# Altium schematic symbol library IC.SchLib: 36 symbols
Pins are listed as number, name and electrical type; pins without a type are passive.

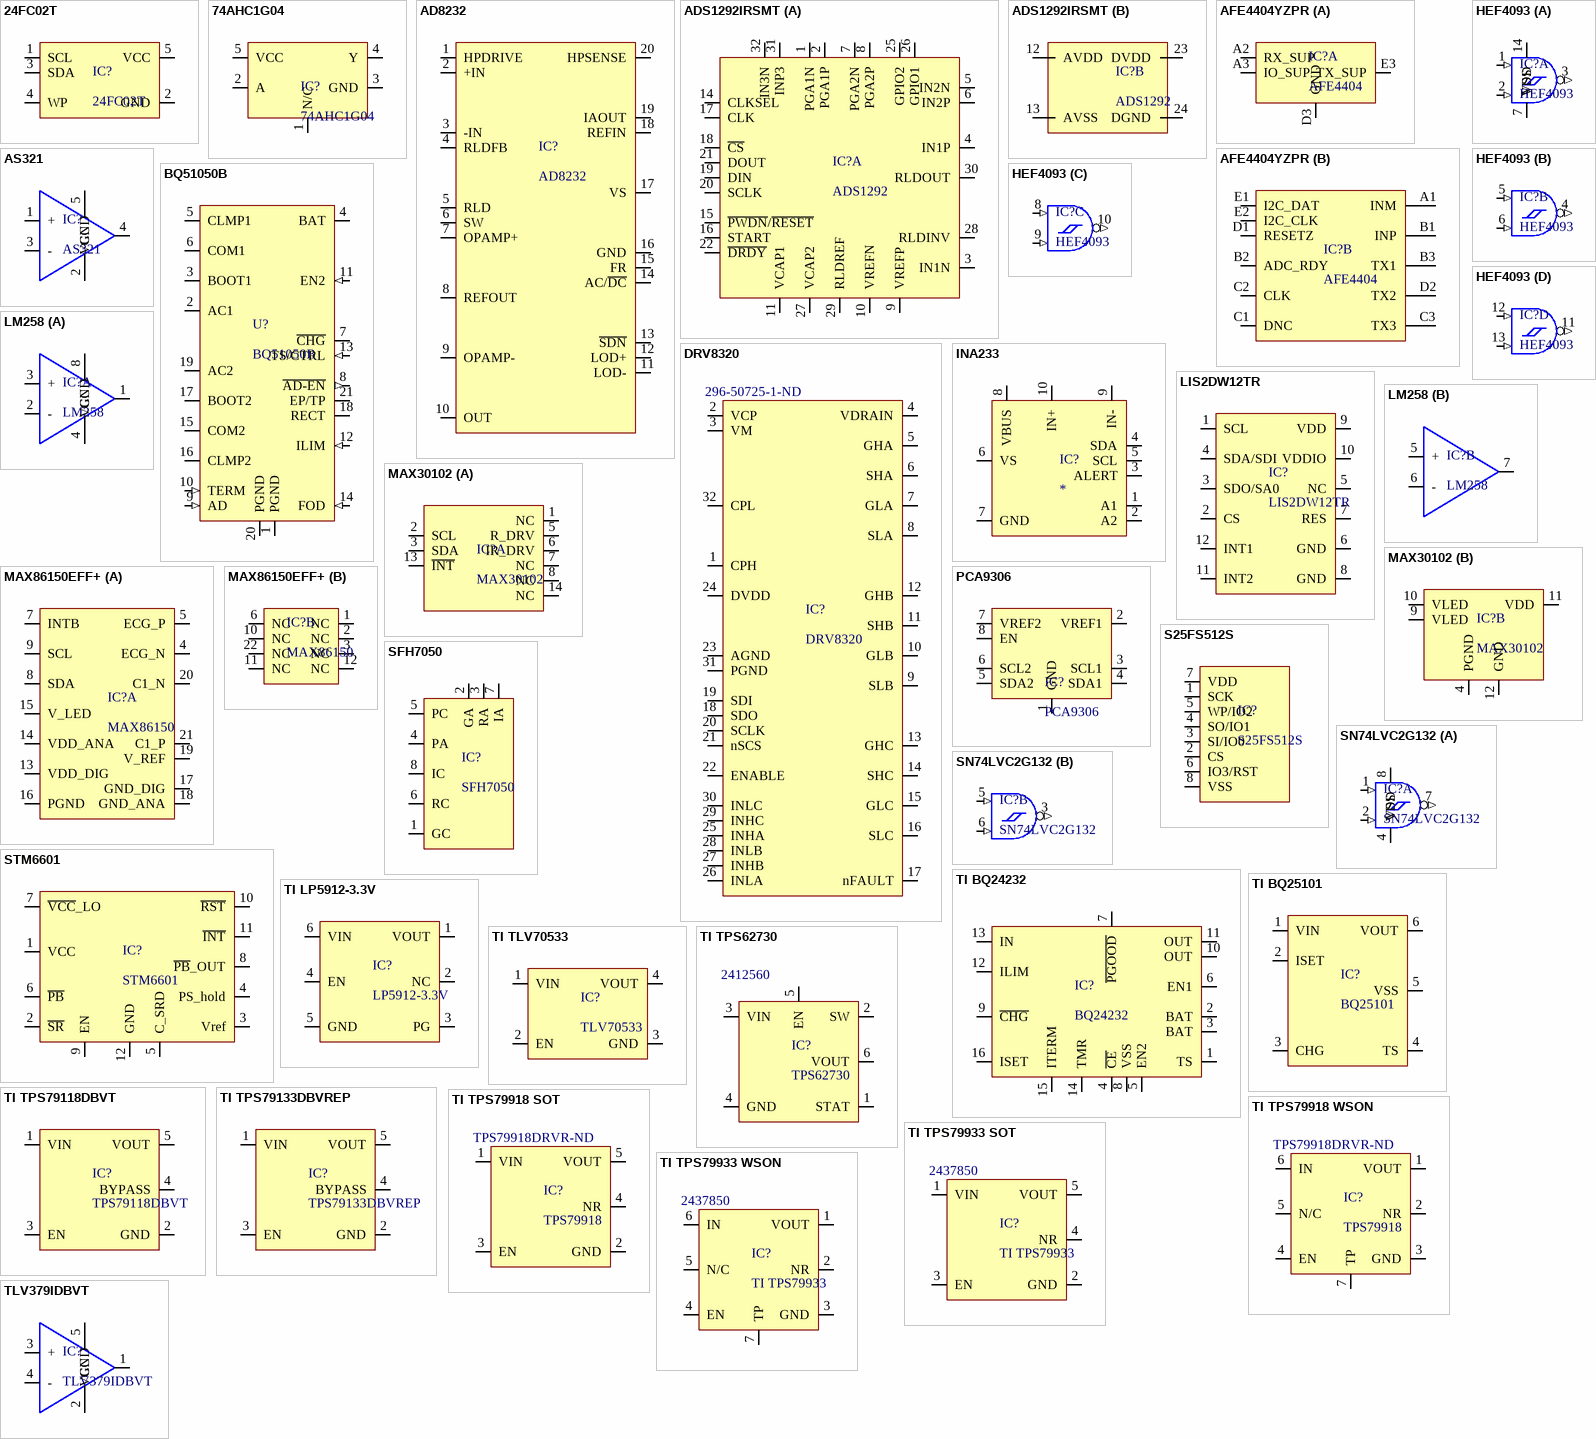
[diagram p0: symbols 24FC02T to TLV379IDBVT]

## 24FC02T
designator IC?
EEPROM 2Kb I2C EEPROM, 1MHz 1.7-5.5V, 5-SOT23; Manufacturer: Microchip; Manufacturer Part Number: 24FC02T-I/OT; Supplier 1: Digi-Key; Stock 1: 5975; Pricing 1: 1 = 0.12000, 100 = 0.11000 (USD); RoHS: No; Supplier Part Number 1: 24FC02T-I/OTCT-ND
footprint SOT23, 5-Leads (SOT23, 5-Leads, Body 2.88x2.80mm, Pitch 0.95mm, IPC Medium Density)
pins: 1 SCL, 2 GND, 3 SDA, 4 WP, 5 VCC

## 74AHC1G04
designator IC?
Inverter
footprint TSSOP5
pins: 1 N/C, 2 A, 3 GND, 4 Y, 5 VCC

## AD8232
designator IC?
Single-Lead, Heart Rate Monitor Front End
footprint LFCSP 20 (LFCSP_WQ 4x4MM JDEC)
pins: 1 HPDRIVE, 2 +IN, 3 -IN, 4 RLDFB, 5 RLD, 6 SW, 7 OPAMP+, 8 REFOUT, 9 OPAMP-, 10 OUT, 11 LOD-, 12 LOD+, 13 ~{SDN}, 14 AC/~{DC}, 15 FR, 16 GND, 17 VS, 18 REFIN, 19 IAOUT, 20 HPSENSE

## ADS1292IRSMT
designator IC?, comment ADS1292
ADS1292IRSMT Analog Front End - AFE Cmplt Lw Pwr Intgrtd AFE for ECG apps; Manufacture: Texas Instruments; SNR - Signal to Noise Ratio: 107 dB; Package/Cas: VQFN-32; Supply Voltage - Min - Max: 2.7V - 5.25V; Operating Supply Curren: 750 uA; Operating Supply Voltage: 1.7 V to 3.6 V, 2.7 V to 5.25 V; Product Category: Analog Front End - AFE; Series: ADS1292; DatasheetURL: http://www.ti.com/lit/ds/symlink/ads1292.pdf; StoreURL: http://pl.mouser.com/Search/ProductDetail.aspx?R=ADS1292IRSMTvirtualkey59500000virtualkey595-ADS1292IRSMT
footprint QFN 40 no via in pad (QFN, 32-Leads, Body 4,00x4,00mm, Pitch 0,40mm, Thermal Pad 2,80x2,80mm, IPC Medium Density)
footprint TQFP40 (TSQFP, 32-Leads, Body 5.00x5.00mm, Pitch 0.50mm, IPC Medium Density)
part A pins: 1 PGA1N, 2 PGA1P, 3 IN1N, 4 IN1P, 5 IN2N, 6 IN2P, 7 PGA2N, 8 PGA2P, 9 VREFP, 10 VREFN, 11 VCAP1, 14 CLKSEL, 15 ~{PWDN}/~{RESET}, 16 START, 17 CLK, 18 ~{CS}, 19 DIN, 20 SCLK, 21 DOUT, 22 ~{DRDY}, 25 GPIO2, 26 GPIO1, 27 VCAP2, 28 RLDINV, 29 RLDREF, 30 RLDOUT, 31 INP3, 32 IN3N
part B pins: 12 AVDD, 13 AVSS, 23 DVDD, 24 DGND

## AFE4404YZPR
designator IC?, comment AFE4404
AFE4404YZPR Analog Front End - AFE Ultra-small, Integr AFE for Wearable; Manufacturer: Texas Instruments; SNR - Signal to Noise Ratio: 100 dB; Supply Voltage - Min - Max: 1.8 - 5.25 V; Product Category: Analog Front End - AFE; Series: AFE4404; Type: Heart Rate and Oximeter AFE; Package/Case: DSBGA-15; ShopURL: http://pl.mouser.com/Search/ProductDetail.aspx?R=AFE4404YZPRvirtualkey59510000virtualkey595-AFE4404YZPR; DatasheetURL: http://www.ti.com/lit/ds/symlink/afe4404.pdf; Model: AFE4404YZPR
footprint BGA15 (BGA, 15-Leads, Body 1,60x2,60mmx0,50mm, Pitch 0,50mm)
part A pins: A2 RX_SUP, A3 IO_SUP, D3 GND, E3 TX_SUP
part B pins: A1 INM, B1 INP, B2 ADC_RDY, B3 TX1, C1 DNC, C2 CLK, C3 TX3, D1 RESETZ, D2 TX2, E1 I2C_DAT, E2 I2C_CLK

## AS321
designator IC?
Op amp
footprint SOT23, 5-Leads (SOT23, 5-Leads, Body 2.88x2.80mm, Pitch 0.95mm, IPC Medium Density)
pins: 1 +, 2 GND, 3 -, 4 OUT, 5 VCC

## BQ51050B
designator U?
IC WIRELESS PWR RCVR 20QFN; Manufacturer: Texas Instruments; Manufacturer Part Number: BQ51050BRHLR; Output Voltage: 4.2V; Output Current: 1.5A; Operating Supply Current: 8mA; Min Supply Voltage: 4V; Max Supply Voltage: 10V; Logic Function: Receiver; Supplier 1: Mouser; Stock 1: 23281; Pricing 1: 1=3.73, 10=3.35, 50=3.35, 100=2.74, 1000=1.97, 10000=1.87 (USD); Mount: Surface Mount; Case/Package: VQFN; Number of Pins: 20; Contact Plating: Gold; Min Operating Temperature: 0°C; Max Operating Temperature: 125°C; Packaging: Tape and Reel; Package Quantity: 1; REACH SVHC: No SVHC; Lead Free: Lead Free; ComponentLink1URL: http://www.ti.com/lit/ds/symlink/bq51050b.pdf; ComponentLink1Description: http://www.ti.com/lit/ds/symlink/bq51050b.pdf; Supplier Part Number 1: 595-BQ51050BRHLR
footprint BQ51050B
pins: 1 PGND (power) "Power ground", 2 AC1 (power) "Input power from receiver coil.", 3 BOOT1 "Bootstrap capacitors for driving the high-side FETs of the synchronous rectifier. Connect a 10nF ceramic capacitor from BOOT1 to AC1 and from BOOT2 to AC2.", 4 BAT (power) "Output pin, delivers power to the battery while applying the internal charger profile.", 5 CLMP1 (oc) "Open drain FETs which are utilized for a non-power dissipative over-voltage AC clamp protection. When the RECT voltage goes above 15 V, both switches will be turned on and the capacitors will act as a low impedance to (See Datasheet)", 6 COM1 (oc) "Open-drain output used to communicate with primary by varying reflected impedance. Connect through a capacitor to either AC1 or AC2 for capacitive load modulation (COMM2 must be connected to the alternate AC1 or AC2 pin). (See Datasheet)", 7 ~{CHG} (oc) "Open-drain output - active when charging of the battery is active.", 8 ~{AD-EN} (out) "Push-pull driver for external PFET when wired charging is active.", 9 AD (in) "Connect this pin to the wired adapter input. When a voltage is applied to this pin wireless charging is disabled and AD_EN is driven low. Connect to GND through a 1uF capacitor. If unused, capacitor is not required and (See Datasheet)", 10 TERM (in) "Input that allows the termination threshold to be programmable. KTERM = 240 ohm/%. Set the termination threshold by applying the following equation RTERM = %IILIM x KTERM where %IILIM is the desired percentage of fast charge (See Datasheet)", 11 EN2 (in) "EN2=0 enables wired charging source if AD input volatge is above 3.6V, wireless charging is enabled if AD input volatge is < 3.6V, EN2=1 disables wired charging source; wireless power is always enabled if present.", 12 ILIM (in) "Programming pin for the battery charge current. Connect external resistor to VSS. Size RILIM with the following equation: RILIM = 300 / IILIM where IILIM is the desired battery charge current.", 13 TS/CTRL (in) "Must be connected to ground via a NTC resistor. If an NTC function is not desired, connect to GND with a 10 kohm resistor. As a CTRL pin pull to ground to send end power transfer (EPT) fault to the transmitter or pull-up to (See Datasheet)", 14 FOD (in) "Input for the rectified power measurement. Connect to GND with a 188 ohm resistor.", 15 COM2 (oc) "Open-drain output used to communicate with primary by varying reflected impedance. Connect through a capacitor to either AC1 or AC2 for capacitive load modulation (COMM1 must be connected to the alternate AC1 or AC2 pin). (See Datasheet)", 16 CLMP2 (oc) "Open drain FETs which are utilized for a non-power dissipative over-voltage AC clamp protection. When the RECT voltage goes above 15 V, both switches will be turned on and the capacitors will act as a low impedance to (See Datasheet)", 17 BOOT2 "Bootstrap capacitors for driving the high-side FETs of the synchronous rectifier. Connect a 10nF ceramic capacitor from BOOT1 to AC1 and from BOOT2 to AC2.", 18 RECT "Filter capacitor for the internal synchronous rectifier. Connect a ceramic capacitor to PGND. Depending on the power levels, the value may be 4.7uF to 22uF.", 19 AC2 (power) "Input power from receiver coil.", 20 PGND (power) "Power ground", 21 EP/TP

## DRV8320
designator IC?  Supplier Part Number 1: 296-50725-1-ND
DRV832x 6 to 60-V Three-Phase Smart Gate Driver; Manufacturer: Texas Instruments; Manufacturer Part Number: DRV8320SRTVR; Supplier 1: Digi-Key; Stock 1: 4114; Pricing 1: 1 = 3.46000, 10 = 3.10600, 25 = 2.93640, 100 = 2.41430, 250 = 2.16632, 500 = 2.08800, 1000 = 1.73565 (USD); RoHS: No; Min Operating Temperature: -40°C; Max Operating Temperature: 125°C; ComponentLink1URL: http://www.ti.com/general/docs/suppproductinfo.tsp?distId=10&amp;gotoUrl=http%3A%2F%2Fwww.ti.com%2Flit%2Fgpn%2Fdrv8320&src-supplier=Digi-Key; ComponentLink1Description: http://www.ti.com/general/docs/suppproductinfo.tsp?distId=10&amp;gotoUrl=http%3A%2F%2Fwww.ti.com%2Flit%2Fgpn%2Fdrv8320&src-supplier=Digi-Key; ComponentLink2URL: http://www.ti.com/lit/ds/symlink/drv8320.pdf?src-supplier=Digi-Key; ComponentLink2Description: http://www.ti.com/lit/ds/symlink/drv8320.pdf?src-supplier=Digi-Key
footprint WQFN32
pins: 1 CPH, 2 VCP, 3 VM, 4 VDRAIN, 5 GHA, 6 SHA, 7 GLA, 8 SLA, 9 SLB, 10 GLB, 11 SHB, 12 GHB, 13 GHC, 14 SHC, 15 GLC, 16 SLC, 17 nFAULT, 18 SDO, 19 SDI, 20 SCLK, 21 nSCS, 22 ENABLE, 23 AGND, 24 DVDD, 25 INHA, 26 INLA, 27 INHB, 28 INLB, 29 INHC, 30 INLC, 31 PGND, 32 CPL

## HEF4093
designator IC?
Quad, dual input NAND gate
part A pins: 1 A (in), 2 B (in), 3 Y (out), 7 VSS (power), 14 VDD (power)
part B pins: 4 Y (out), 5 A (in), 6 B (in)
part C pins: 8 A (in), 9 B (in), 10 Y (out)
part D pins: 11 Y (out), 12 A (in), 13 B (in)

## INA233
designator IC?
INA233 High-Side or Low-Side Measurement, Bidirectional Current and Power Monitor / With I / 2C-, SMBus-, and PMBus-Compatible Interface
pins: 1 A1, 2 A2, 3 ALERT, 4 SDA, 5 SCL, 6 VS, 7 GND, 8 VBUS, 9 IN-, 10 IN+

## LIS2DW12TR
designator IC?
ACCEL 2-16G I2C/SPI 12LGA; Manufacturer: STMicroelectronics; Output Type: SPI,I2C; Axis: X, Y, Z; Bandwidth: 400Hz; Supplier 1: Mouser; Manufacturer Part Number: LIS2DW12TR; Stock 1: 50566; Pricing 1: 1=2.24, 10=1.9, 50=1.9, 100=1.52, 1000=1.11, 10000=0.95 (USD); Supplier 2: Mouser; Stock 2: 46784; Pricing 2: 1=2.24, 10=1.9, 50=1.9, 100=1.52, 1000=1.11, 10000=0.95 (USD); Mount: Surface Mount; Case/Package: LGA; Number of Pins: 12; Min Operating Temperature: -40°C; Max Operating Temperature: 85°C; Packaging: Cut Tape; Supplier Part Number 2: 511-LIS2DW12TR
footprint LGA50-12N (LGA, 12-Leads, Body 2.00x2.00mm, Pitch 0.50mm, IPC Medium Density)
pins: 1 SCL, 2 CS, 3 SDO/SA0, 4 SDA/SDI, 5 NC, 6 GND, 7 RES, 8 GND, 9 VDD, 10 VDDIO, 11 INT2, 12 INT1

## LM258
designator IC?
Op amp
footprint SOIC8 (SOIC, 8-Leads, Body 4.90x3.90mm, Pitch 1.27mm, IPC Medium Density)
part A pins: 1 OUT, 2 -, 3 +, 4 GND, 8 VCC
part B pins: 5 +, 6 -, 7 OUT

## MAX30102
designator IC?
Pulse Oximeter and Heart-Rate Sensor; Manufacturer: Maxim; Manufacturer Part Number: MAX30102EFD+T; Output Type: I2C; Supplier 1: Mouser; Stock 1: 0; Pricing 1: 1=8.6, 10=7.77, 50=7.18, 100=6.44, 1000=4.75, 10000=4.75 (USD); Min Operating Temperature: -40°C; Max Operating Temperature: 85°C; Supplier Part Number 1: 700-MAX30102EFD+T
footprint MAX30102
part A pins: 1 NC, 2 SCL, 3 SDA, 5 R_DRV, 6 IR_DRV, 7 NC, 8 NC, 13 ~{INT}, 14 NC
part B pins: 4 PGND, 9 VLED, 10 VLED, 11 VDD, 12 GND

## MAX86150EFF+
designator IC?, comment MAX86150
Integrated Photoplethysmogram and Electrocardiogram Bio-Sensor Module For Mobile Health; Manufacturer: Maxim; Manufacturer Part Number: MAX86150EFF+; Output Type: I2C; Supplier 1: Farnell; Stock 1: 340; ComponentLink1Description: Datasheet; ComponentLink1URL: https://datasheets.maximintegrated.com/en/ds/MAX86150.pdf; Supplier 2: Mouser; Stock 2: 341; Pricing 2: 1=7.14, 10=6.45, 50=5.79, 100=5.34, 1000=3.66, 10000=3.66 (USD); Min Operating Temperature: -40°C; Max Operating Temperature: 85°C; Supplier Part Number 2: 700-MAX86150EFF+
footprint MAX86150
part A pins: 4 ECG_N, 5 ECG_P, 7 INTB, 8 SDA, 9 SCL, 13 VDD_DIG, 14 VDD_ANA, 15 V_LED, 16 PGND, 17 GND_DIG, 18 GND_ANA, 19 V_REF, 20 C1_N, 21 C1_P
part B pins: 1 NC, 2 NC, 3 NC, 6 NC, 10 NC, 11 NC, 12 NC, 22 NC

## PCA9306
designator IC?
Dual Bidirectional I2C Bus and SMBus Voltage-Level Translator
footprint SSOP8
pins: 1 GND, 2 VREF1, 3 SCL1, 4 SDA1, 5 SDA2, 6 SCL2, 7 VREF2, 8 EN

## S25FS512S
designator IC?
IC FLASH 512M SPI 133MHZ 8WSON; Manufacturer: Cypress; Manufacturer Part Number: S25FS512SAGNFV010; Supplier 1: Digikey; Stock 1: 0; Pricing 1: 1=2.09, 10=1.908, 25=1.8572, 50=1.8474, 100=1.6513, 338=1.64639, 676=1.62189, 1014=1.55232, 5070=1.4455 (USD)
footprint WSON8 (SON, 8-Leads, Body 6,00x8,00mm, Pitch 1,27mm, Thermal Pad 4,00x3,40mm, IPC Medium Density)
pins: 1 SCK, 2 CS, 3 SI/IO0, 4 SO/IO1, 5 WP/IO2, 6 IO3/RST, 7 VDD, 8 VSS

## SFH7050
designator IC?
Multi chip package featuring 3 emitters and one detector
footprint SFH7050 package
pins: 1 GC, 2 GA, 3 RA, 4 PA, 5 PC, 6 RC, 7 IA, 8 IC

## SN74LVC2G132
designator IC?
Dual 2-Input NAND Gate With Schmitt-Trigger Inputs; Value: SN74LVC2G132
footprint TSSOP8 (TSSOP, 8-Leads, Body 2.00x2.30mm, Pitch 0.50mm, IPC Medium Density)
part A pins: 1 A (in), 2 B (in), 4 VSS (power), 7 Y (out), 8 VDD (power)
part B pins: 3 Y (out), 5 A (in), 6 B (in)

## STM6601
designator IC?
IC SUPERVISOR 3.1V 12TDFN; Manufacturer: STMicroelectronics; Manufacturer Part Number: STM6601CM2DDM6F; Max Supply Voltage: 5.5V; Min Supply Voltage: 1.65V; Number of Voltages Monitored: 1; Operating Supply Current: 6uA; Reset: Active Low; Overvoltage Threshold: 3.2V; Undervoltage Threshold: 3V; Watchdog Timer: No; Reset Timeout: 240ms; Supplier 1: Mouser; Stock 1: 15344; Pricing 1: 1=1.51, 10=1.29, 50=1.29, 100=0.985, 1000=0.687, 10000=0.587 (USD); Mount: Surface Mount; Case/Package: WFDFN; Number of Pins: 12; Min Operating Temperature: -40°C; Max Operating Temperature: 85°C; Packaging: Tape and Reel; Package Quantity: 3000; Threshold Voltage: 3.1V; Type: Smart On/Off controller; Length: 3mm; Height: 0.73mm; Radiation Hardening: No; Lead Free: Lead Free; ComponentLink1URL: http://www.mouser.com/ds/2/389/CD00226957-471027.pdf?src-supplier=Mouser; ComponentLink1Description: http://www.mouser.com/ds/2/389/CD00226957-471027.pdf?src-supplier=Mouser; ComponentLink2URL: http://www.st.com/content/ccc/resource/sales_and_marketing/promotional_material/flyer/aa/21/1f/20/e0/b1/46/88/FLSTM66XX0215.pdf/files/FLSTM66XX0215.pdf/jcr:content/translations/en.FLSTM66XX0215.pdf?src-supplier=Digi-Key; ComponentLink2Description: http://www.st.com/content/ccc/resource/sales_and_marketing/promotional_material/flyer/aa/21/1f/20/e0/b1/46/88/FLSTM66XX0215.pdf/files/FLSTM66XX0215.pdf/jcr:content/translations/en.FLSTM66XX0215.pdf?src-supplier=Digi-Key; ComponentLink3URL: https://www.verical.com/server-webapp/html/getDatasheet?partID=321468&src-supplier=Verical; ComponentLink3Description: https://www.verical.com/server-webapp/html/getDatasheet?partID=321468&src-supplier=Verical; ComponentLink4URL: http://www.st.com/web/en/resource/technical/document/datasheet/CD00226957.pdf?src-supplier=Avnet+Europe; ComponentLink4Description: http://www.st.com/web/en/resource/technical/document/datasheet/CD00226957.pdf?src-supplier=Avnet+Europe
footprint TDFN12
pins: 1 VCC, 2 ~{SR}, 3 Vref, 4 PS_hold, 5 C_SRD, 6 ~{PB}, 7 ~{VCC}_LO, 8 ~{PB}_OUT, 9 EN, 10 ~{RST}, 11 ~{INT}, 12 GND

## TI BQ24232
designator IC?, comment BQ24232
USB Friendly 0.5A Li+ Charger w/ Dynamic Power Management
footprint QFN16 (QFN, 16-Leads, Body 3.00x3.00mm, Pitch 0.50mm, Thermal Pad 1.68x1.68mm, IPC Medium Density)
pins: 1 TS, 2 BAT, 3 BAT, 4 ~{CE}, 5 EN2, 6 EN1, 7 ~{PGOOD}, 8 VSS, 9 ~{CHG}, 10 OUT, 11 OUT, 12 ILIM, 13 IN, 14 TMR, 15 ITERM, 16 ISET

## TI BQ25101
designator IC?, comment BQ25101
50 mA, 3 V TO 50 V, MICROPOWER, LOW-DROPOUT LINEAR REGULATOR
footprint BGA6 (BGA, 6-Leads, Body 0.88x1.58mmx0.50mm, Pitch 0.40mm)
pins: 1 VIN, 2 ISET, 3 CHG, 4 TS, 5 VSS, 6 VOUT

## TI LP5912-3.3V
designator IC?, comment LP5912-3.3V
50 mA, 3 V TO 50 V, MICROPOWER, LOW-DROPOUT LINEAR REGULATOR
footprint WSON 6 (SON, 6-Leads, Body 2.00x2.00mm, Pitch 0.65mm, Thermal Pad 1.60x0.89mm, IPC Medium Density)
pins: 1 VOUT, 2 NC, 3 PG, 4 EN, 5 GND, 6 VIN

## TI TLV70533
designator IC?, comment TLV70533
ULTRALOW NOISE, HIGH PSRR, FAST RF, 100-mA  LOW-DROPOUT LINEAR REGULATORS
footprint BGA4 (BGA, 4-Leads, Body 0.78x0.78mmx0.50mm, Pitch 0.40mm)
pins: 1 VIN, 2 EN, 3 GND, 4 VOUT

## TI TPS62730
designator IC?, comment TPS62730  Supplier Part Number 1: 2412560
Step-Down Converter With Bypass Mode for Ultra Low-Power Wireless; Manufacturer: Texas Instruments; Manufacturer Part Number: TPS62730DRYT; Output Voltage: 2.1V; Output Current: 100mA; Number of Outputs: 1; Switching Frequency: 3MHz; Efficiency: 95%; Max Input Voltage: 3.9V; Min Input Voltage: 1.9V; Quiescent Current: 25uA; Output Type: Fixed; Supplier 1: Farnell; Stock 1: 0; Number of Pins: 6; Min Operating Temperature: -40°C; Max Operating Temperature: 85°C; Package Quantity: 1; Packaging: Tape and Reel; Nominal Output Voltage: 2.1V; Max Output Current: 100mA; Max Output Voltage: 2.1V; Min Output Voltage: 2.1V; Length: 1.5mm; Height: 0.55mm; Width: 1.05mm; Radiation Hardening: No; REACH SVHC: No SVHC; Lead Free: Lead Free; ComponentLink1URL: http://www.ti.com/general/docs/lit/getliterature.tsp?genericPartNumber=TPS62732&&fileType=pdf&src-supplier=Avnet; ComponentLink1Description: http://www.ti.com/general/docs/lit/getliterature.tsp?genericPartNumber=TPS62732&&fileType=pdf&src-supplier=Avnet; ComponentLink2URL: http://www.farnell.com/datasheets/1882346.pdf?src-supplier=Element14; ComponentLink2Description: http://www.farnell.com/datasheets/1882346.pdf?src-supplier=Element14; ComponentLink3URL: http://www.ti.com/lit/ds/symlink/tps62730.pdf?src-supplier=Digi-Key; ComponentLink3Description: http://www.ti.com/lit/ds/symlink/tps62730.pdf?src-supplier=Digi-Key; ComponentLink4URL: http://www.ti.com/lit/ds/symlink/tps62730.pdf?src-supplier=Avnet+Europe; ComponentLink4Description: http://www.ti.com/lit/ds/symlink/tps62730.pdf?src-supplier=Avnet+Europe
footprint TPS62730
pins: 1 STAT, 2 SW, 3 VIN, 4 GND, 5 EN, 6 VOUT

## TI TPS79118DBVT
designator IC?, comment TPS79118DBVT
ULTRALOW NOISE, HIGH PSRR, FAST RF, 100-mA  LOW-DROPOUT LINEAR REGULATORS
footprint SOT23, 5-Leads (SOT23, 5-Leads, Body 2.88x2.80mm, Pitch 0.95mm, IPC Medium Density)
pins: 1 VIN, 2 GND, 3 EN, 4 BYPASS, 5 VOUT

## TI TPS79133DBVREP
designator IC?, comment TPS79133DBVREP
ULTRALOW NOISE, HIGH PSRR, FAST RF, 100-mA  LOW-DROPOUT LINEAR REGULATORS
footprint SOT23, 5-Leads (SOT23, 5-Leads, Body 2.88x2.80mm, Pitch 0.95mm, IPC Medium Density)
pins: 1 VIN, 2 GND, 3 EN, 4 BYPASS, 5 VOUT

## TI TPS79918 SOT
designator IC?, comment TPS79918  Supplier Part Number 1: TPS79918DRVR-ND
TPS799 200-mA, Low-Quiescent Current, Ultralow Noise, High-PSRR Low-Dropout Linear  Regulator; Manufacturer: Texas Instruments; Manufacturer Part Number: TPS79918DRVR; Number of Outputs: 1; Output Voltage: 1.8V; Output Current: 200mA; Max Power Dissipation: 1.54W; Max Input Voltage: 6.5V; Min Input Voltage: 2.7V; Polarity: Positive; Output Voltage Accuracy: 1%; Accuracy: 2%; Quiescent Current: 40uA; Output Type: Fixed; Dropout Voltage: 175mV; Supplier 1: Digi-Key; Stock 1: 0; Number of Pins: 6; Min Operating Temperature: -40°C; Max Operating Temperature: 125°C; Package Quantity: 3000; Packaging: Tape and Reel; Max Output Current: 200mA; Number of Regulators: 1; Min Current Limit: 200mA; Power Dissipation: 1.54W; Min Output Voltage: 1.8V; Max Output Voltage: 1.8V; Nominal Output Voltage: 1.8V; Input Bias Current: 40uA; Radiation Hardening: No; Lead Free: Lead Free; REACH SVHC: Unknown; ComponentLink1URL: http://www.ti.com/lit/ds/symlink/tps799.pdf?src-supplier=Digi-Key; ComponentLink1Description: http://www.ti.com/lit/ds/symlink/tps799.pdf?src-supplier=Digi-Key
footprint SOT23, 5-Leads (SOT23, 5-Leads, Body 2.88x2.80mm, Pitch 0.95mm, IPC Medium Density)
pins: 1 VIN, 2 GND, 3 EN, 4 NR, 5 VOUT

## TI TPS79918 WSON
designator IC?, comment TPS79918  Supplier Part Number 1: TPS79918DRVR-ND
TPS799 200-mA, Low-Quiescent Current, Ultralow Noise, High-PSRR Low-Dropout Linear  Regulator; Manufacturer: Texas Instruments; Manufacturer Part Number: TPS79918DRVR; Number of Outputs: 1; Output Voltage: 1.8V; Output Current: 200mA; Max Power Dissipation: 1.54W; Max Input Voltage: 6.5V; Min Input Voltage: 2.7V; Polarity: Positive; Output Voltage Accuracy: 1%; Accuracy: 2%; Quiescent Current: 40uA; Output Type: Fixed; Dropout Voltage: 175mV; Supplier 1: Digi-Key; Stock 1: 0; Number of Pins: 6; Min Operating Temperature: -40°C; Max Operating Temperature: 125°C; Package Quantity: 3000; Packaging: Tape and Reel; Max Output Current: 200mA; Number of Regulators: 1; Min Current Limit: 200mA; Power Dissipation: 1.54W; Min Output Voltage: 1.8V; Max Output Voltage: 1.8V; Nominal Output Voltage: 1.8V; Input Bias Current: 40uA; Radiation Hardening: No; Lead Free: Lead Free; REACH SVHC: Unknown; ComponentLink1URL: http://www.ti.com/lit/ds/symlink/tps799.pdf?src-supplier=Digi-Key; ComponentLink1Description: http://www.ti.com/lit/ds/symlink/tps799.pdf?src-supplier=Digi-Key
footprint WSON6 (SON, 6-Leads, Body 2.00x2.00mm, Pitch 0.65mm, Thermal Pad 1.60x0.89mm, IPC Medium Density)
pins: 1 VOUT, 2 NR, 3 GND, 4 EN, 5 N/C, 6 IN, 7 TP

## TI TPS79933 SOT
designator IC?, comment TI TPS79933  Supplier Part Number 1: 2437850
TPS799 200-mA, Low-Quiescent Current, Ultralow Noise, High-PSRR Low-Dropout Linear  Regulator; Manufacturer: Texas Instruments; Manufacturer Part Number: TPS79933DRVR; Dropout Voltage: 90mV; Output Current: 200mA; Number of Outputs: 1; Max Power Dissipation: 1.54W; Output Voltage: 3.3V; Max Input Voltage: 6.5V; Min Input Voltage: 2.7V; Polarity: Positive; Quiescent Current: 40uA; Accuracy: 2%; Output Voltage Accuracy: 1%; Output Type: Fixed; Reference Voltage: 1.217V; ComponentLink1URL: http://www.ti.com/lit/ds/symlink/tps799.pdf?src-supplier=Digi-Key; ComponentLink1Description: http://www.ti.com/lit/ds/symlink/tps799.pdf?src-supplier=Digi-Key; Supplier 1: Farnell; Stock 1: 0; Number of Pins: 6; Contact Plating: Gold; Min Operating Temperature: -40°C; Max Operating Temperature: 125°C; Package Quantity: 1; Packaging: Tape and Reel; Max Output Current: 200mA; Number of Regulators: 1; Min Current Limit: 200mA; Min Output Voltage: 3.3V; Power Dissipation: 1.54W; Max Output Voltage: 3.3V; Nominal Output Voltage: 3.3V; Input Bias Current: 40uA; Length: 2.1mm; Height: 0.75mm; Width: 2.1mm; Radiation Hardening: No; Lead Free: Lead Free; REACH SVHC: No SVHC; ComponentLink2URL: http://www.mouser.com/ds/2/405/sbvs056k-526638.pdf?src-supplier=Mouser; ComponentLink2Description: http://www.mouser.com/ds/2/405/sbvs056k-526638.pdf?src-supplier=Mouser; ComponentLink3URL: http://www.farnell.com/datasheets/1885786.pdf?src-supplier=Element14; ComponentLink3Description: http://www.farnell.com/datasheets/1885786.pdf?src-supplier=Element14; ComponentLink4URL: http://datasheet.iiic.cc/texas_instruments/TPS79933DRVR.pdf?src-supplier=IIIC; ComponentLink4Description: http://datasheet.iiic.cc/texas_instruments/TPS79933DRVR.pdf?src-supplier=IIIC
footprint SOT23, 5-Leads (SOT23, 5-Leads, Body 2.88x2.80mm, Pitch 0.95mm, IPC Medium Density)
pins: 1 VIN, 2 GND, 3 EN, 4 NR, 5 VOUT

## TI TPS79933 WSON
designator IC?, comment TI TPS79933  Supplier Part Number 1: 2437850
TPS799 200-mA, Low-Quiescent Current, Ultralow Noise, High-PSRR Low-Dropout Linear  Regulator; Manufacturer: Texas Instruments; Manufacturer Part Number: TPS79933DRVR; Dropout Voltage: 90mV; Output Current: 200mA; Number of Outputs: 1; Max Power Dissipation: 1.54W; Output Voltage: 3.3V; Max Input Voltage: 6.5V; Min Input Voltage: 2.7V; Polarity: Positive; Quiescent Current: 40uA; Accuracy: 2%; Output Voltage Accuracy: 1%; Output Type: Fixed; Reference Voltage: 1.217V; ComponentLink1URL: http://www.ti.com/lit/ds/symlink/tps799.pdf?src-supplier=Digi-Key; ComponentLink1Description: http://www.ti.com/lit/ds/symlink/tps799.pdf?src-supplier=Digi-Key; Supplier 1: Farnell; Stock 1: 0; Number of Pins: 6; Contact Plating: Gold; Min Operating Temperature: -40°C; Max Operating Temperature: 125°C; Package Quantity: 1; Packaging: Tape and Reel; Max Output Current: 200mA; Number of Regulators: 1; Min Current Limit: 200mA; Min Output Voltage: 3.3V; Power Dissipation: 1.54W; Max Output Voltage: 3.3V; Nominal Output Voltage: 3.3V; Input Bias Current: 40uA; Length: 2.1mm; Height: 0.75mm; Width: 2.1mm; Radiation Hardening: No; Lead Free: Lead Free; REACH SVHC: No SVHC; ComponentLink2URL: http://www.mouser.com/ds/2/405/sbvs056k-526638.pdf?src-supplier=Mouser; ComponentLink2Description: http://www.mouser.com/ds/2/405/sbvs056k-526638.pdf?src-supplier=Mouser; ComponentLink3URL: http://www.farnell.com/datasheets/1885786.pdf?src-supplier=Element14; ComponentLink3Description: http://www.farnell.com/datasheets/1885786.pdf?src-supplier=Element14; ComponentLink4URL: http://datasheet.iiic.cc/texas_instruments/TPS79933DRVR.pdf?src-supplier=IIIC; ComponentLink4Description: http://datasheet.iiic.cc/texas_instruments/TPS79933DRVR.pdf?src-supplier=IIIC
footprint WSON6 (SON, 6-Leads, Body 2.00x2.00mm, Pitch 0.65mm, Thermal Pad 1.60x0.89mm, IPC Medium Density)
pins: 1 VOUT, 2 NR, 3 GND, 4 EN, 5 N/C, 6 IN, 7 TP

## TLV379IDBVT
designator IC?
IC OP AMP RRIO SGL SOT23-5; Manufacturer: Texas Instruments; Number of Circuits: 1; Slew Rate: 0.03V/µs; Gain Bandwidth Product: 90kHz; Input Bias Current: 5pA; Input Offset Voltage (Vos): 800uV; Operating Supply Current: 4uA; Output Current per Channel: 5mA; Supplier 1: Farnell; Manufacturer Part Number: TLV379IDBVT; Stock 1: 0; Mount: Surface Mount; Case/Package: SOT-23-5; Number of Pins: 5; Min Operating Temperature: -40°C; Max Operating Temperature: 125°C; Packaging: Cut Tape; Number of Channels: 1; Bandwidth: 90kHz; Number of Amplifiers: 1; Lead Free: Lead Free; REACH SVHC: No SVHC
footprint SOT23, 5-Leads (SOT23, 5-Leads, Body 2.88x2.80mm, Pitch 0.95mm, IPC Medium Density)
pins: 1 OUT, 2 GND, 3 +, 4 -, 5 VCC

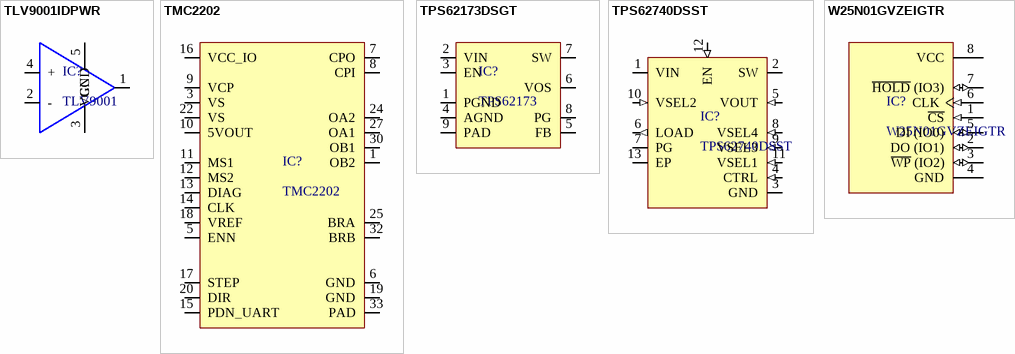
[diagram p1: symbols TLV9001IDPWR to W25N01GVZEIGTR]

## TLV9001IDPWR
designator IC?, comment TLV9001
Op amp; Manufacturer: Texas Instruments; Manufacturer Part Number: TLV9001IDPWR; Number of Circuits: 1; Slew Rate: 2V/µs; Gain Bandwidth Product: 1MHz; Input Bias Current: 5pA; Input Offset Voltage (Vos): 400uV; Operating Supply Current: 60uA; Output Current per Channel: 40mA; Supplier 1: Mouser; Stock 1: 3569; Pricing 1: 1=0.6, 10=0.5, 50=0.5, 100=0.302, 1000=0.233, 10000=0.185 (USD); Mount: Surface Mount; Min Operating Temperature: -40°C; Max Operating Temperature: 125°C; Packaging: Tape and Reel; Supplier Part Number 1: 595-TLV9001IDPWR
footprint X2SON - 5 (SON, 6-Leads, Body 2.00x2.00mm, Pitch 0.65mm, Thermal Pad 1.60x0.89mm, IPC Medium Density)
pins: 1 OUT, 2 -, 3 GND, 4 +, 5 VCC

## TMC2202
designator IC?
Step/Dir Drivers for Two-Phase Bipolar Stepper Motors up to 2A peak - / StealthChop™ for Quiet Movement - UART Interface Option.; Manufacturer: Trinamic; Manufacturer Part Number: TMC2202-WA-T; Logic Function: AND GATE; Interface: UART,Logic; Output Current: 1.2A; Supplier 1: Digi-Key; Stock 1: 479; Pricing 1: 1 = 2.46000, 50 = 2.21000, 100 = 1.95000, 500 = 1.69000, 1000 = 1.43001 (USD); RoHS: No; Mount: Surface Mount; Case/Package: QFN; Min Operating Temperature: -40°C; Max Operating Temperature: 125°C; Packaging: Cut Tape; ComponentLink1URL: https://www.trinamic.com/fileadmin/assets/Products/ICs_Documents/TMC220x_TMC222x_datasheet_Rev1.05.pdf?src-supplier=Digi-Key; ComponentLink1Description: https://www.trinamic.com/fileadmin/assets/Products/ICs_Documents/TMC220x_TMC222x_datasheet_Rev1.05.pdf?src-supplier=Digi-Key; Supplier Part Number 1: 1460-1272-1-ND
footprint QFN 40 no via in pad (QFN, 32-Leads, Body 4,00x4,00mm, Pitch 0,40mm, Thermal Pad 2,80x2,80mm, IPC Medium Density)
pins: 1 OB2, 2 NC hidden, 3 VS, 4 NC hidden, 5 ENN, 6 GND, 7 CPO, 8 CPI, 9 VCP, 10 5VOUT, 11 MS1, 12 MS2, 13 DIAG, 14 CLK, 15 PDN_UART, 16 VCC_IO, 17 STEP, 18 VREF, 19 GND, 20 DIR, 21 NC hidden, 22 VS, 23 NC hidden, 24 OA2, 25 BRA, 26 NC hidden, 27 OA1, 28 NC hidden, 29 NC hidden, 30 OB1, 31 NC hidden, 32 BRB, 33 PAD

## TPS62173DSGT
designator IC?, comment TPS62173
DC-DC CONVERTER, BUCK, 2.25MHZ, WSON-8; Manufacturer: Texas Instruments; Manufacturer Part Number: TPS62173DSGT; Output Current: 500mA; Number of Outputs: 1; Output Voltage: 5V; Max Input Voltage: 17V; Min Input Voltage: 3V; Synchronous Rectifier: Yes; Quiescent Current: 17uA; Output Type: Fixed; Output Configuration: Positive; Supplier 1: Digi-Key; Stock 1: 10767; Pricing 1: 1 = 1.48000, 10 = 1.32500, 25 = 1.25720, 100 = 0.96540 (USD); RoHS: Yes; Number of Pins: 8; Contact Plating: Gold; Min Operating Temperature: -40°C; Max Operating Temperature: 125°C; Packaging: Tape and Reel; Package Quantity: 250; Switching Frequency: 2.25MHz; Max Output Current: 500mA; Min Output Voltage: 5V; Max Output Voltage: 5V; Operating Supply Voltage: 17V; Nominal Output Voltage: 5V; Length: 2.1mm; Height: 0.75mm; Width: 2.1mm; Lead Free: Lead Free; REACH SVHC: No SVHC; ComponentLink1URL: https://datasheet.ciiva.com/2025/tps62173-2025849.pdf?src-supplier=Digi-Key; ComponentLink1Description: https://datasheet.ciiva.com/2025/tps62173-2025849.pdf?src-supplier=Digi-Key; ComponentLink2URL: https://datasheet.ciiva.com/15268/8925tps62170-15268921.pdf?src-supplier=Arrow+Europe; ComponentLink2Description: https://datasheet.ciiva.com/15268/8925tps62170-15268921.pdf?src-supplier=Arrow+Europe; ComponentLink3URL: https://datasheet.ciiva.com/2025/tps62173-2025851.pdf?src-supplier=Digi-Key; ComponentLink3Description: https://datasheet.ciiva.com/2025/tps62173-2025851.pdf?src-supplier=Digi-Key; ComponentLink4URL: https://datasheet.ciiva.com/14377/tps62170-14377019.pdf?src-supplier=Avnet; ComponentLink4Description: https://datasheet.ciiva.com/14377/tps62170-14377019.pdf?src-supplier=Avnet
footprint SON8
pins: 1 PGND, 2 VIN, 3 EN, 4 AGND, 5 FB, 6 VOS, 7 SW, 8 PG, 9 PAD

## TPS62740DSST
designator IC?
Switching Voltage Regulators 360-nA Iq SD Cnvtr w/ Intg Load Switch; Manufacturer: Texas Instruments; Output Voltage: 3.3V; Output Current: 300mA; Number of Outputs: 1; Switching Frequency: 2MHz; Operating Supply Voltage: 5.5V; Min Input Voltage: 2.2V; Efficiency: 90%; Min Output Voltage: 1.8V; Quiescent Current: 300nA; Output Type: Adjustable; Supplier 1: Mouser; Manufacturer Part Number: TPS62740DSST; Stock 1: 2918; Pricing 1: 1=1.94, 10=1.65, 50=1.65, 100=1.32, 1000=0.955, 10000=0.856 (USD); Mount: Surface Mount; Number of Pins: 12; Min Operating Temperature: -40°C; Max Operating Temperature: 85°C; Packaging: Tape and Reel; Package Quantity: 250; Max Input Voltage: 5.5V; Min Supply Voltage: 2.2V; Max Output Current: 300mA; Operating Supply Current: 300mA; Max Output Voltage: 3.3V; Length: 3.1mm; Height: 0.75mm; Width: 2.1mm; Radiation Hardening: No; REACH SVHC: No SVHC; Lead Free: Lead Free; ComponentLink1URL: http://www.ti.com/lit/ds/symlink/tps62740.pdf?src-supplier=Digi-Key; ComponentLink1Description: http://www.ti.com/lit/ds/symlink/tps62740.pdf?src-supplier=Digi-Key; ComponentLink2URL: http://www.ti.com/lit/gpn/tps62740?src-supplier=Mouser; ComponentLink2Description: http://www.ti.com/lit/gpn/tps62740?src-supplier=Mouser; ComponentLink3URL: http://www.farnell.com/datasheets/2020427.pdf?src-supplier=Element14; ComponentLink3Description: http://www.farnell.com/datasheets/2020427.pdf?src-supplier=Element14; ComponentLink4URL: http://www.ti.com/lit/ds/symlink/tps62740.pdf?src-supplier=Avnet; ComponentLink4Description: http://www.ti.com/lit/ds/symlink/tps62740.pdf?src-supplier=Avnet; Supplier Part Number 1: 595-TPS62740DSST
footprint WSON 12
pins: 1 VIN (power) "VIN power supply pin. Connect this pin close to the VIN terminal of the input capacitor. A ceramic capacitor of 4.7 uF is required.", 2 SW (power) "This is the switch pin and is connected to the internal MOSFET switches. Connect the inductor to this terminal.", 3 GND (power) "GND supply pin. Connect this pin close to the GND terminal of the input and output capacitor.", 4 CTRL (in) "This pin controls the output LOAD pin. With CTRL = low, the output LOAD is disabled. This pin must be terminated.", 5 VOUT (in) "Feedback pin for the internal feedback divider network and regulation loop. An internal load switch is connected between this pin and the LOAD pin. Connect this pin directly to the output capacitor with a short trace.", 6 LOAD (out) "This output is controlled by the CTRL Pin. With CTRL high, an internal load switch connects the LOAD pin to the VOUT pin. The LOAD pin allows to connect / disconnect other system components to the output of the DC/DC (See Datasheet)", 7 PG (hiz) "Power good open drain output. This pin is high impedance to indicate "Power Good". Connect a external pull up resistor to generate a "high" level. If not used, this pin can be left open.", 8 VSEL4 (in) "Output voltage selection pin.", 9 VSEL3 (in) "Output voltage selection pin.", 10 VSEL2 (in) "Output voltage selection pin.", 11 VSEL1 (in) "Output voltage selection pin.", 12 EN (in) "High level enables the devices, low level turns the device into shutdown mode. This pin must be terminated.", 13 EP (power) "Not electrically connected to the IC, but must be soldered. Connect this pad to GND and use it as a central GND plane."

## W25N01GVZEIGTR
designator IC?
IC FLASH 1G SPI 104MHZ 8WSON; Manufacturer: Winbond; Memory Type: FLASH,NAND; Interface: SPI,Serial; Supplier 1: Digi-Key; Manufacturer Part Number: W25N01GVZEIGTR; Stock 1: 11270; Pricing 1: 1=2.75, 10=2.474, 25=2.4344, 50=2.428, 100=2.1695, 250=2.099, 500=2.09118, 1000=1.9476 (USD); Min Operating Temperature: -40°C; Max Operating Temperature: 85°C; Packaging: Tape and Reel; Frequency: 104MHz; Supplier Part Number 1: W25N01GVZEIGDKR-ND
footprint WSON8 (SON, 8-Leads, Body 6,00x8,00mm, Pitch 1,27mm, Thermal Pad 4,00x3,40mm, IPC Medium Density)
pins: 1 ~{CS} (in) "Chip Select Input", 2 DO (IO1) (io) "Data Output (Data Input Output 1)", 3 ~{WP} (IO2) (io) "Write Protect Input ( Data Input Output 2)", 4 GND (power) "Ground", 5 DI (IO0) (io) "Data Input (Data Input Output 0)", 6 CLK (in) "Serial Clock Input", 7 ~{HOLD} (IO3) (io) "Hold Input (Data Input Output 3)", 8 VCC (power) "Power Supply"